# EAGLE library part STM8L101F2 (library comp_RFSwitch_v3)
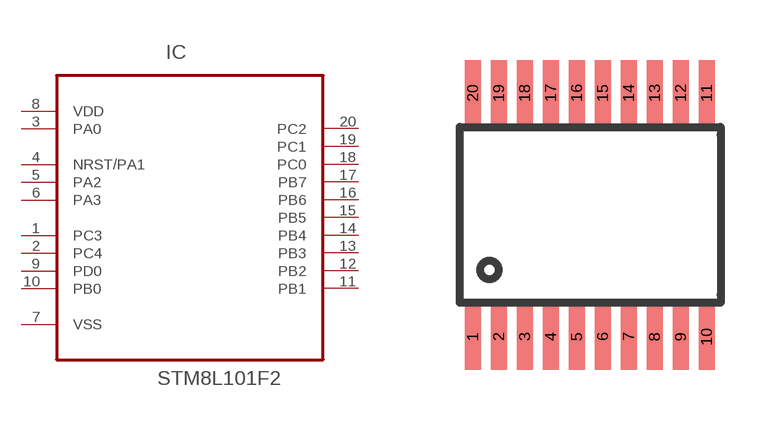
[diagram p2: symbol with the pads of TSSOP20; footprint TSSOP20]

Designator prefix IC

## STM8L101F2  [TSSOP20]
1  PC3
2  PC4
3  PA0  pwr
4  NRST/PA1
5  PA2
6  PA3
7  VSS  pwr
8  VDD  pwr
9  PD0
10  PB0
11  PB1
12  PB2
13  PB3
14  PB4
15  PB5
16  PB6
17  PB7
18  PC0
19  PC1
20  PC2

## Footprint TSSOP20 (pad centres in mm)
smd 0.4 x 1.65: 1 -3.575,-3.05; 2 -2.925,-3.05; 3 -2.275,-3.05; 4 -1.625,-3.05; 5 -0.975,-3.05; 6 -0.325,-3.05; 7 0.325,-3.05; 8 0.975,-3.05; 9 1.625,-3.05; 10 2.275,-3.05; 11 2.275,3.05; 12 1.625,3.05; 13 0.975,3.05; 14 0.325,3.05; 15 -0.325,3.05; 16 -0.975,3.05; 17 -1.625,3.05; 18 -2.275,3.05; 19 -2.925,3.05; 20 -3.575,3.05